# EAGLE library part AD7710 (library ad7710)
Analog Devices AD7710 Signal Conditioning 24 bit ADC
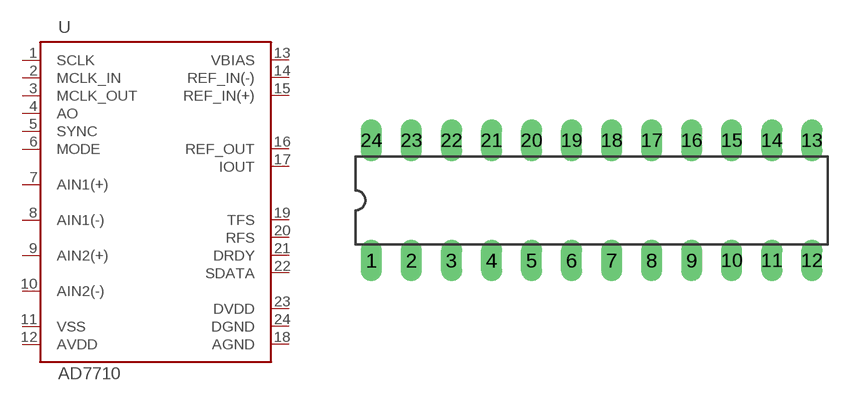
[diagram p0: symbol with the pads of DIL24-3; footprint DIL24-3]

Designator prefix -

## AD7710  [DIL24-3]
1  SCLK
2  MCLK_IN  in
3  MCLK_OUT  out
4  AO  in
5  SYNC  in
6  MODE  in
7  AIN1(+)  in
8  AIN1(-)  in
9  AIN2(+)  in
10  AIN2(-)  in
11  VSS  in
12  AVDD  in
13  VBIAS  in
14  REF_IN(-)  in
15  REF_IN(+)  in
16  REF_OUT  out
17  IOUT  out
18  AGND  in
19  TFS
20  RFS
21  DRDY
22  SDATA
23  DVDD  in
24  DGND  in

## Footprint DIL24-3 (pad centres in mm)
drill 0.813 long: 1 -13.97,-3.81; 2 -11.43,-3.81; 3 -8.89,-3.81; 4 -6.35,-3.81; 5 -3.81,-3.81; 6 -1.27,-3.81; 7 1.27,-3.81; 8 3.81,-3.81; 9 6.35,-3.81; 10 8.89,-3.81; 11 11.43,-3.81; 12 13.97,-3.81; 13 13.97,3.81; 14 11.43,3.81; 15 8.89,3.81; 16 6.35,3.81; 17 3.81,3.81; 18 1.27,3.81; 19 -1.27,3.81; 20 -3.81,3.81; 21 -6.35,3.81; 22 -8.89,3.81; 23 -11.43,3.81; 24 -13.97,3.81